# EAGLE library part R7FA6M5BG3CFB (library Labops_Lib_AH)
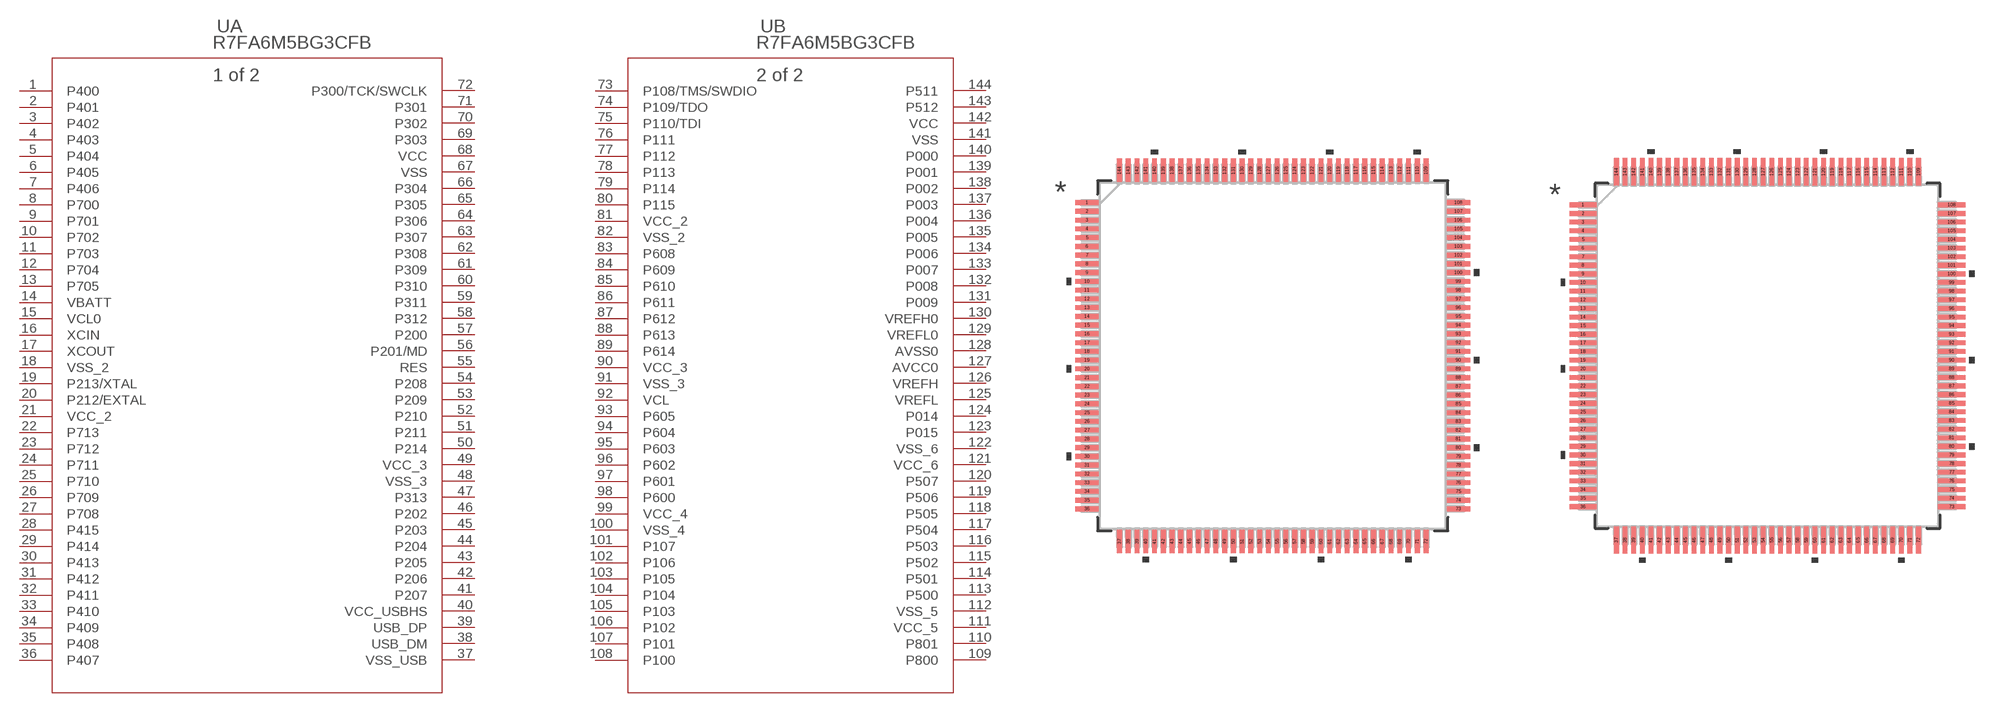
[diagram p79: symbol with the pads of LQFP_144_20X20_REN; footprints LQFP_144_20X20_REN, LQFP_144_20X20_REN-M]

Designator prefix U; gates A=R7FA6M5BG3CFB_A B=R7FA6M5BG3CFB_B

## R7FA6M5BG3CFB (COPYRIGHT: Copyright (C) 2022 Ultra Librarian. All rights reserved.; MANUFACTURER_PART_NUMBER: R7FA6M5BG3CFB; MFR_NAME: Renesas Electronics)  [LQFP_144_20X20_REN]
1  A:P400
2  A:P401
3  A:P402
4  A:P403
5  A:P404
6  A:P405
7  A:P406
8  A:P700
9  A:P701
10  A:P702
11  A:P703
12  A:P704
13  A:P705
14  A:VBATT  pwr
15  A:VCL0  pwr
16  A:XCIN  in
17  A:XCOUT  out
18  A:VSS_2  pwr
19  A:P213/XTAL
20  A:P212/EXTAL
21  A:VCC_2  pwr
22  A:P713
23  A:P712
24  A:P711
25  A:P710
26  A:P709
27  A:P708
28  A:P415
29  A:P414
30  A:P413
31  A:P412
32  A:P411
33  A:P410
34  A:P409
35  A:P408
36  A:P407
37  A:VSS_USB  pwr
38  A:USB_DM
39  A:USB_DP
40  A:VCC_USBHS  pwr
41  A:P207
42  A:P206
43  A:P205
44  A:P204
45  A:P203
46  A:P202
47  A:P313
48  A:VSS_3  pwr
49  A:VCC_3  pwr
50  A:P214
51  A:P211
52  A:P210
53  A:P209
54  A:P208
55  A:RES  pas
56  A:P201/MD
57  A:P200
58  A:P312
59  A:P311
60  A:P310
61  A:P309
62  A:P308
63  A:P307
64  A:P306
65  A:P305
66  A:P304
67  A:VSS  pwr
68  A:VCC  pwr
69  A:P303
70  A:P302
71  A:P301
72  A:P300/TCK/SWCLK
73  B:P108/TMS/SWDIO
74  B:P109/TDO
75  B:P110/TDI
76  B:P111
77  B:P112
78  B:P113
79  B:P114
80  B:P115
81  B:VCC_2  pwr
82  B:VSS_2  pwr
83  B:P608
84  B:P609
85  B:P610
86  B:P611
87  B:P612
88  B:P613
89  B:P614
90  B:VCC_3  pwr
91  B:VSS_3  pwr
92  B:VCL  pwr
93  B:P605
94  B:P604
95  B:P603
96  B:P602
97  B:P601
98  B:P600
99  B:VCC_4  pwr
100  B:VSS_4  pwr
101  B:P107
102  B:P106
103  B:P105
104  B:P104
105  B:P103
106  B:P102
107  B:P101
108  B:P100
109  B:P800
110  B:P801
111  B:VCC_5  pwr
112  B:VSS_5  pwr
113  B:P500
114  B:P501
115  B:P502
116  B:P503
117  B:P504
118  B:P505
119  B:P506
120  B:P507
121  B:VCC_6  pwr
122  B:VSS_6  pwr
123  B:P015
124  B:P014
125  B:VREFL  pwr
126  B:VREFH  pwr
127  B:AVCC0  pwr
128  B:AVSS0  pwr
129  B:VREFL0  pwr
130  B:VREFH0  pwr
131  B:P009
132  B:P008
133  B:P007
134  B:P006
135  B:P005
136  B:P004
137  B:P003
138  B:P002
139  B:P001
140  B:P000
141  B:VSS  pwr
142  B:VCC  pwr
143  B:P512
144  B:P511

## R7FA6M5BG3CFBLQFP_144_20X20_REN-M (DESCRIPTION: LQFP-144 ARM33 MCU with micro ROS Support; MFN: R7FA6M5BG3CFB; MFR: Renesas)  [LQFP_144_20X20_REN-M]
Pads as for LQFP_144_20X20_REN

## R7FA6M5BG3CFBLQFP_144_20X20_REN-L (COPYRIGHT: Copyright (C) 2022 Ultra Librarian. All rights reserved.; MANUFACTURER_PART_NUMBER: R7FA6M5BG3CFB; MFR_NAME: Renesas Electronics)  [LQFP_144_20X20_REN-L]
Pads as for LQFP_144_20X20_REN

## R7FA6M5BG3CFBLQFP-144-M (MFN: R7FA6M5BG3CFB#AA0; MFR: Renesas)  [LQFP-144-M]
Pads as for LQFP_144_20X20_REN

## Footprint LQFP_144_20X20_REN (pad centres in mm)
smd 1.36 x 0.279: 1 -10.77,8.89; 2 -10.77,8.382; 3 -10.77,7.874; 4 -10.77,7.366; 5 -10.77,6.858; 6 -10.77,6.35; 7 -10.77,5.842; 8 -10.77,5.334; 9 -10.77,4.826; 10 -10.77,4.318; 11 -10.77,3.81; 12 -10.77,3.302; 13 -10.77,2.794; 14 -10.77,2.286; 15 -10.77,1.778; 16 -10.77,1.27; 17 -10.77,0.762; 18 -10.77,0.254; 19 -10.77,-0.254; 20 -10.77,-0.762; 21 -10.77,-1.27; 22 -10.77,-1.778; 23 -10.77,-2.286; 24 -10.77,-2.794; 25 -10.77,-3.302; 26 -10.77,-3.81; 27 -10.77,-4.318; 28 -10.77,-4.826; 29 -10.77,-5.334; 30 -10.77,-5.842; 31 -10.77,-6.35; 32 -10.77,-6.858; 33 -10.77,-7.366; 34 -10.77,-7.874; 35 -10.77,-8.382; 36 -10.77,-8.89; 73 10.77,-8.89; 74 10.77,-8.382; 75 10.77,-7.874; 76 10.77,-7.366; 77 10.77,-6.858; 78 10.77,-6.35; 79 10.77,-5.842; 80 10.77,-5.334; 81 10.77,-4.826; 82 10.77,-4.318; 83 10.77,-3.81; 84 10.77,-3.302; 85 10.77,-2.794; 86 10.77,-2.286; 87 10.77,-1.778; 88 10.77,-1.27; 89 10.77,-0.762; 90 10.77,-0.254; 91 10.77,0.254; 92 10.77,0.762; 93 10.77,1.27; 94 10.77,1.778; 95 10.77,2.286; 96 10.77,2.794; 97 10.77,3.302; 98 10.77,3.81; 99 10.77,4.318; 100 10.77,4.826; 101 10.77,5.334; 102 10.77,5.842; 103 10.77,6.35; 104 10.77,6.858; 105 10.77,7.366; 106 10.77,7.874; 107 10.77,8.382; 108 10.77,8.89
smd 0.279 x 1.36: 37 -8.89,-10.77; 38 -8.382,-10.77; 39 -7.874,-10.77; 40 -7.366,-10.77; 41 -6.858,-10.77; 42 -6.35,-10.77; 43 -5.842,-10.77; 44 -5.334,-10.77; 45 -4.826,-10.77; 46 -4.318,-10.77; 47 -3.81,-10.77; 48 -3.302,-10.77; 49 -2.794,-10.77; 50 -2.286,-10.77; 51 -1.778,-10.77; 52 -1.27,-10.77; 53 -0.762,-10.77; 54 -0.254,-10.77; 55 0.254,-10.77; 56 0.762,-10.77; 57 1.27,-10.77; 58 1.778,-10.77; 59 2.286,-10.77; 60 2.794,-10.77; 61 3.302,-10.77; 62 3.81,-10.77; 63 4.318,-10.77; 64 4.826,-10.77; 65 5.334,-10.77; 66 5.842,-10.77; 67 6.35,-10.77; 68 6.858,-10.77; 69 7.366,-10.77; 70 7.874,-10.77; 71 8.382,-10.77; 72 8.89,-10.77; 109 8.89,10.77; 110 8.382,10.77; 111 7.874,10.77; 112 7.366,10.77; 113 6.858,10.77; 114 6.35,10.77; 115 5.842,10.77; 116 5.334,10.77; 117 4.826,10.77; 118 4.318,10.77; 119 3.81,10.77; 120 3.302,10.77; 121 2.794,10.77; 122 2.286,10.77; 123 1.778,10.77; 124 1.27,10.77; 125 0.762,10.77; 126 0.254,10.77; 127 -0.254,10.77; 128 -0.762,10.77; 129 -1.27,10.77; 130 -1.778,10.77; 131 -2.286,10.77; 132 -2.794,10.77; 133 -3.302,10.77; 134 -3.81,10.77; 135 -4.318,10.77; 136 -4.826,10.77; 137 -5.334,10.77; 138 -5.842,10.77; 139 -6.35,10.77; 140 -6.858,10.77; 141 -7.366,10.77; 142 -7.874,10.77; 143 -8.382,10.77; 144 -8.89,10.77

## Footprint LQFP_144_20X20_REN-M (pad centres in mm)
smd 1.604 x 0.279: 1 -10.848,8.89; 2 -10.848,8.382; 3 -10.848,7.874; 4 -10.848,7.366; 5 -10.848,6.858; 6 -10.848,6.35; 7 -10.848,5.842; 8 -10.848,5.334; 9 -10.848,4.826; 10 -10.848,4.318; 11 -10.848,3.81; 12 -10.848,3.302; 13 -10.848,2.794; 14 -10.848,2.286; 15 -10.848,1.778; 16 -10.848,1.27; 17 -10.848,0.762; 18 -10.848,0.254; 19 -10.848,-0.254; 20 -10.848,-0.762; 21 -10.848,-1.27; 22 -10.848,-1.778; 23 -10.848,-2.286; 24 -10.848,-2.794; 25 -10.848,-3.302; 26 -10.848,-3.81; 27 -10.848,-4.318; 28 -10.848,-4.826; 29 -10.848,-5.334; 30 -10.848,-5.842; 31 -10.848,-6.35; 32 -10.848,-6.858; 33 -10.848,-7.366; 34 -10.848,-7.874; 35 -10.848,-8.382; 36 -10.848,-8.89; 73 10.848,-8.89; 74 10.848,-8.382; 75 10.848,-7.874; 76 10.848,-7.366; 77 10.848,-6.858; 78 10.848,-6.35; 79 10.848,-5.842; 80 10.848,-5.334; 81 10.848,-4.826; 82 10.848,-4.318; 83 10.848,-3.81; 84 10.848,-3.302; 85 10.848,-2.794; 86 10.848,-2.286; 87 10.848,-1.778; 88 10.848,-1.27; 89 10.848,-0.762; 90 10.848,-0.254; 91 10.848,0.254; 92 10.848,0.762; 93 10.848,1.27; 94 10.848,1.778; 95 10.848,2.286; 96 10.848,2.794; 97 10.848,3.302; 98 10.848,3.81; 99 10.848,4.318; 100 10.848,4.826; 101 10.848,5.334; 102 10.848,5.842; 103 10.848,6.35; 104 10.848,6.858; 105 10.848,7.366; 106 10.848,7.874; 107 10.848,8.382; 108 10.848,8.89
smd 0.279 x 1.604: 37 -8.89,-10.848; 38 -8.382,-10.848; 39 -7.874,-10.848; 40 -7.366,-10.848; 41 -6.858,-10.848; 42 -6.35,-10.848; 43 -5.842,-10.848; 44 -5.334,-10.848; 45 -4.826,-10.848; 46 -4.318,-10.848; 47 -3.81,-10.848; 48 -3.302,-10.848; 49 -2.794,-10.848; 50 -2.286,-10.848; 51 -1.778,-10.848; 52 -1.27,-10.848; 53 -0.762,-10.848; 54 -0.254,-10.848; 55 0.254,-10.848; 56 0.762,-10.848; 57 1.27,-10.848; 58 1.778,-10.848; 59 2.286,-10.848; 60 2.794,-10.848; 61 3.302,-10.848; 62 3.81,-10.848; 63 4.318,-10.848; 64 4.826,-10.848; 65 5.334,-10.848; 66 5.842,-10.848; 67 6.35,-10.848; 68 6.858,-10.848; 69 7.366,-10.848; 70 7.874,-10.848; 71 8.382,-10.848; 72 8.89,-10.848; 109 8.89,10.848; 110 8.382,10.848; 111 7.874,10.848; 112 7.366,10.848; 113 6.858,10.848; 114 6.35,10.848; 115 5.842,10.848; 116 5.334,10.848; 117 4.826,10.848; 118 4.318,10.848; 119 3.81,10.848; 120 3.302,10.848; 121 2.794,10.848; 122 2.286,10.848; 123 1.778,10.848; 124 1.27,10.848; 125 0.762,10.848; 126 0.254,10.848; 127 -0.254,10.848; 128 -0.762,10.848; 129 -1.27,10.848; 130 -1.778,10.848; 131 -2.286,10.848; 132 -2.794,10.848; 133 -3.302,10.848; 134 -3.81,10.848; 135 -4.318,10.848; 136 -4.826,10.848; 137 -5.334,10.848; 138 -5.842,10.848; 139 -6.35,10.848; 140 -6.858,10.848; 141 -7.366,10.848; 142 -7.874,10.848; 143 -8.382,10.848; 144 -8.89,10.848

## Footprint LQFP_144_20X20_REN-L (pad centres in mm)
smd 1.06 x 0.229: 1 -10.72,8.89; 2 -10.72,8.382; 3 -10.72,7.874; 4 -10.72,7.366; 5 -10.72,6.858; 6 -10.72,6.35; 7 -10.72,5.842; 8 -10.72,5.334; 9 -10.72,4.826; 10 -10.72,4.318; 11 -10.72,3.81; 12 -10.72,3.302; 13 -10.72,2.794; 14 -10.72,2.286; 15 -10.72,1.778; 16 -10.72,1.27; 17 -10.72,0.762; 18 -10.72,0.254; 19 -10.72,-0.254; 20 -10.72,-0.762; 21 -10.72,-1.27; 22 -10.72,-1.778; 23 -10.72,-2.286; 24 -10.72,-2.794; 25 -10.72,-3.302; 26 -10.72,-3.81; 27 -10.72,-4.318; 28 -10.72,-4.826; 29 -10.72,-5.334; 30 -10.72,-5.842; 31 -10.72,-6.35; 32 -10.72,-6.858; 33 -10.72,-7.366; 34 -10.72,-7.874; 35 -10.72,-8.382; 36 -10.72,-8.89; 73 10.72,-8.89; 74 10.72,-8.382; 75 10.72,-7.874; 76 10.72,-7.366; 77 10.72,-6.858; 78 10.72,-6.35; 79 10.72,-5.842; 80 10.72,-5.334; 81 10.72,-4.826; 82 10.72,-4.318; 83 10.72,-3.81; 84 10.72,-3.302; 85 10.72,-2.794; 86 10.72,-2.286; 87 10.72,-1.778; 88 10.72,-1.27; 89 10.72,-0.762; 90 10.72,-0.254; 91 10.72,0.254; 92 10.72,0.762; 93 10.72,1.27; 94 10.72,1.778; 95 10.72,2.286; 96 10.72,2.794; 97 10.72,3.302; 98 10.72,3.81; 99 10.72,4.318; 100 10.72,4.826; 101 10.72,5.334; 102 10.72,5.842; 103 10.72,6.35; 104 10.72,6.858; 105 10.72,7.366; 106 10.72,7.874; 107 10.72,8.382; 108 10.72,8.89
smd 0.229 x 1.06: 37 -8.89,-10.72; 38 -8.382,-10.72; 39 -7.874,-10.72; 40 -7.366,-10.72; 41 -6.858,-10.72; 42 -6.35,-10.72; 43 -5.842,-10.72; 44 -5.334,-10.72; 45 -4.826,-10.72; 46 -4.318,-10.72; 47 -3.81,-10.72; 48 -3.302,-10.72; 49 -2.794,-10.72; 50 -2.286,-10.72; 51 -1.778,-10.72; 52 -1.27,-10.72; 53 -0.762,-10.72; 54 -0.254,-10.72; 55 0.254,-10.72; 56 0.762,-10.72; 57 1.27,-10.72; 58 1.778,-10.72; 59 2.286,-10.72; 60 2.794,-10.72; 61 3.302,-10.72; 62 3.81,-10.72; 63 4.318,-10.72; 64 4.826,-10.72; 65 5.334,-10.72; 66 5.842,-10.72; 67 6.35,-10.72; 68 6.858,-10.72; 69 7.366,-10.72; 70 7.874,-10.72; 71 8.382,-10.72; 72 8.89,-10.72; 109 8.89,10.72; 110 8.382,10.72; 111 7.874,10.72; 112 7.366,10.72; 113 6.858,10.72; 114 6.35,10.72; 115 5.842,10.72; 116 5.334,10.72; 117 4.826,10.72; 118 4.318,10.72; 119 3.81,10.72; 120 3.302,10.72; 121 2.794,10.72; 122 2.286,10.72; 123 1.778,10.72; 124 1.27,10.72; 125 0.762,10.72; 126 0.254,10.72; 127 -0.254,10.72; 128 -0.762,10.72; 129 -1.27,10.72; 130 -1.778,10.72; 131 -2.286,10.72; 132 -2.794,10.72; 133 -3.302,10.72; 134 -3.81,10.72; 135 -4.318,10.72; 136 -4.826,10.72; 137 -5.334,10.72; 138 -5.842,10.72; 139 -6.35,10.72; 140 -6.858,10.72; 141 -7.366,10.72; 142 -7.874,10.72; 143 -8.382,10.72; 144 -8.89,10.72

## Footprint LQFP-144-M (pad centres in mm)
smd 1.45 x 0.3: 1 -10.725,8.75; 2 -10.725,8.25; 3 -10.725,7.75; 4 -10.725,7.25; 5 -10.725,6.75; 6 -10.725,6.25; 7 -10.725,5.75; 8 -10.725,5.25; 9 -10.725,4.75; 10 -10.725,4.25; 11 -10.725,3.75; 12 -10.725,3.25; 13 -10.725,2.75; 14 -10.725,2.25; 15 -10.725,1.75; 16 -10.725,1.25; 17 -10.725,0.75; 18 -10.725,0.25; 19 -10.725,-0.25; 20 -10.725,-0.75; 21 -10.725,-1.25; 22 -10.725,-1.75; 23 -10.725,-2.25; 24 -10.725,-2.75; 25 -10.725,-3.25; 26 -10.725,-3.75; 27 -10.725,-4.25; 28 -10.725,-4.75; 29 -10.725,-5.25; 30 -10.725,-5.75; 31 -10.725,-6.25; 32 -10.725,-6.75; 33 -10.725,-7.25; 34 -10.725,-7.75; 35 -10.725,-8.25; 36 -10.725,-8.75; 73 10.725,-8.75; 74 10.725,-8.25; 75 10.725,-7.75; 76 10.725,-7.25; 77 10.725,-6.75; 78 10.725,-6.25; 79 10.725,-5.75; 80 10.725,-5.25; 81 10.725,-4.75; 82 10.725,-4.25; 83 10.725,-3.75; 84 10.725,-3.25; 85 10.725,-2.75; 86 10.725,-2.25; 87 10.725,-1.75; 88 10.725,-1.25; 89 10.725,-0.75; 90 10.725,-0.25; 91 10.725,0.25; 92 10.725,0.75; 93 10.725,1.25; 94 10.725,1.75; 95 10.725,2.25; 96 10.725,2.75; 97 10.725,3.25; 98 10.725,3.75; 99 10.725,4.25; 100 10.725,4.75; 101 10.725,5.25; 102 10.725,5.75; 103 10.725,6.25; 104 10.725,6.75; 105 10.725,7.25; 106 10.725,7.75; 107 10.725,8.25; 108 10.725,8.75
smd 0.3 x 1.45: 37 -8.75,-10.725; 38 -8.25,-10.725; 39 -7.75,-10.725; 40 -7.25,-10.725; 41 -6.75,-10.725; 42 -6.25,-10.725; 43 -5.75,-10.725; 44 -5.25,-10.725; 45 -4.75,-10.725; 46 -4.25,-10.725; 47 -3.75,-10.725; 48 -3.25,-10.725; 49 -2.75,-10.725; 50 -2.25,-10.725; 51 -1.75,-10.725; 52 -1.25,-10.725; 53 -0.75,-10.725; 54 -0.25,-10.725; 55 0.25,-10.725; 56 0.75,-10.725; 57 1.25,-10.725; 58 1.75,-10.725; 59 2.25,-10.725; 60 2.75,-10.725; 61 3.25,-10.725; 62 3.75,-10.725; 63 4.25,-10.725; 64 4.75,-10.725; 65 5.25,-10.725; 66 5.75,-10.725; 67 6.25,-10.725; 68 6.75,-10.725; 69 7.25,-10.725; 70 7.75,-10.725; 71 8.25,-10.725; 72 8.75,-10.725; 109 8.75,10.725; 110 8.25,10.725; 111 7.75,10.725; 112 7.25,10.725; 113 6.75,10.725; 114 6.25,10.725; 115 5.75,10.725; 116 5.25,10.725; 117 4.75,10.725; 118 4.25,10.725; 119 3.75,10.725; 120 3.25,10.725; 121 2.75,10.725; 122 2.25,10.725; 123 1.75,10.725; 124 1.25,10.725; 125 0.75,10.725; 126 0.25,10.725; 127 -0.25,10.725; 128 -0.75,10.725; 129 -1.25,10.725; 130 -1.75,10.725; 131 -2.25,10.725; 132 -2.75,10.725; 133 -3.25,10.725; 134 -3.75,10.725; 135 -4.25,10.725; 136 -4.75,10.725; 137 -5.25,10.725; 138 -5.75,10.725; 139 -6.25,10.725; 140 -6.75,10.725; 141 -7.25,10.725; 142 -7.75,10.725; 143 -8.25,10.725; 144 -8.75,10.725